# Altium schematic symbol library Logic_ANSI.SchLib: 30 symbols
Pins are listed as number, name and electrical type; pins without a type are passive.

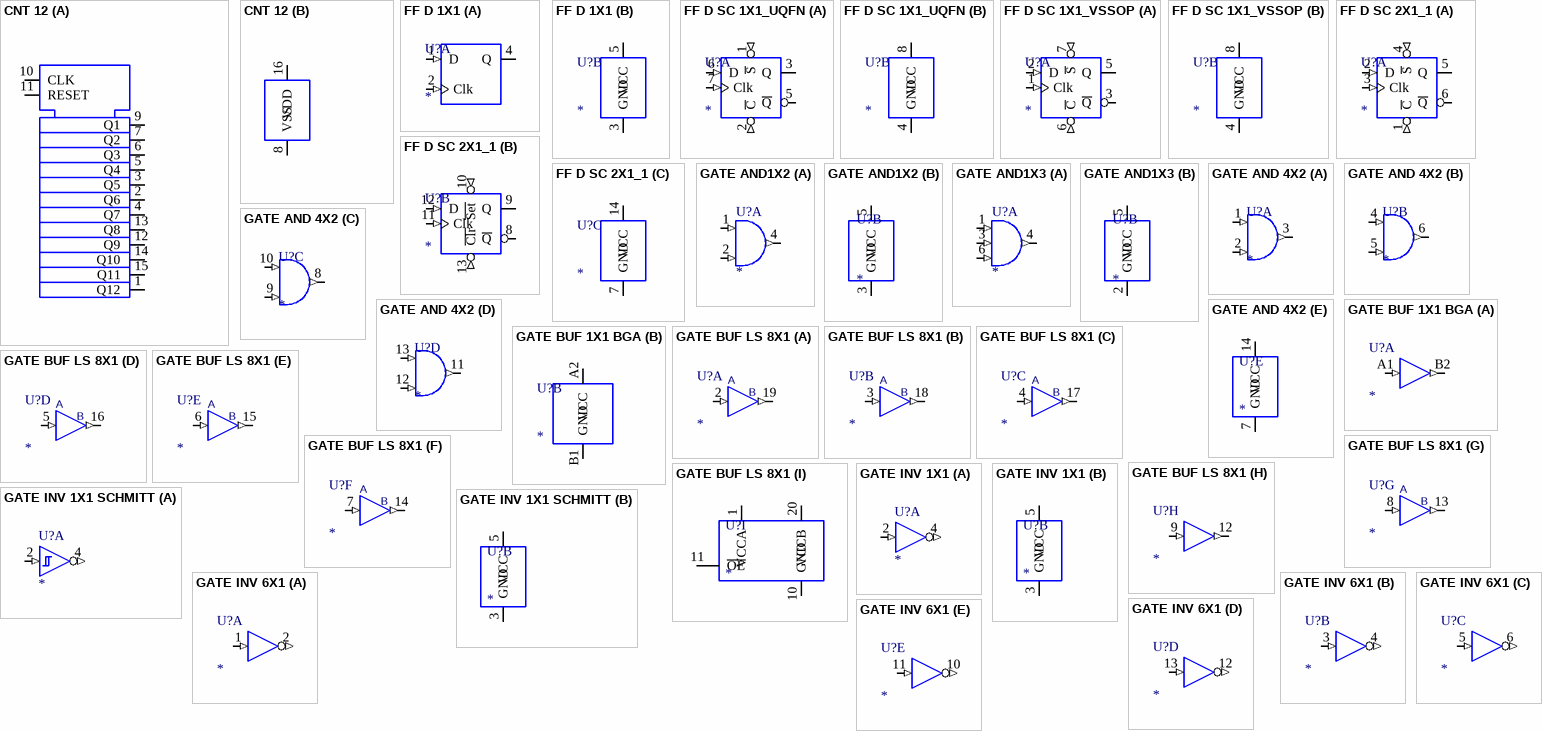
[diagram p0: symbols CNT 12 to GATE INV 6X1]

## CNT 12
designator U?
12 Bit Ripple Counter
part A pins: 1 Q12, 2 Q6, 3 Q5, 4 Q7, 5 Q4, 6 Q3, 7 Q2, 9 Q1, 10 CLK, 11 RESET, 12 Q9, 13 Q8, 14 Q10, 15 Q11
part B pins: 8 VSS, 16 VDD

## FF D 1X1
designator U?
part A pins: 1 D (in), 2 Clk (in), 4 Q
part B pins: 3 GND, 5 VCC

## FF D SC 1X1_UQFN
designator U?
part A pins: 1 ~{S} (in), 2 ~{C} (in), 3 Q, 5 ~{Q}, 6 D (in), 7 Clk (in)
part B pins: 4 GND, 8 VCC

## FF D SC 1X1_VSSOP
designator U?
part A pins: 1 Clk (in), 2 D (in), 3 ~{Q}, 5 Q, 6 ~{C} (in), 7 ~{S} (in)
part B pins: 4 GND, 8 VCC

## FF D SC 2X1_1
designator U?
part A pins: 1 ~{C} (in), 2 D (in), 3 Clk (in), 4 ~{S} (in), 5 Q, 6 ~{Q}
part B pins: 8 ~{Q}, 9 Q, 10 ~{Set} (in), 11 Clk (in), 12 D (in), 13 ~{Clr} (in)
part C pins: 7 GND, 14 VCC

## GATE AND1X2
designator U?
part A pins: 1 B (in), 2 A (in), 4 Y (out)
part B pins: 3 GND, 5 VCC

## GATE AND1X3
designator U?
part A pins: 1 A (in), 3 B (in), 4 Y (out), 6 C (in)
part B pins: 2 GND, 5 VCC

## GATE AND 4X2
designator U?
part A pins: 1 A0 (in), 2 B0 (in), 3 Y0 (out)
part B pins: 4 A1 (in), 5 B1 (in), 6 Y1 (out)
part C pins: 8 Y2 (out), 9 B2 (in), 10 A2 (in)
part D pins: 11 Y3 (out), 12 B3 (in), 13 A3 (in)
part E pins: 7 GND, 14 VCC

## GATE BUF 1X1 BGA
designator U?
part A pins: A1 A (in), B2 B8 (out)
part B pins: A2 VCC, B1 GND

## GATE BUF LS 8X1
designator U?
part A pins: 2 A1 (in), 19 B1 (out)
part B pins: 3 A2 (in), 18 B2 (out)
part C pins: 4 A3 (in), 17 B3 (out)
part D pins: 5 A4 (in), 16 B4 (out)
part E pins: 6 A5 (in), 15 B5 (out)
part F pins: 7 A6 (in), 14 B6 (out)
part G pins: 8 A7 (in), 13 B7 (out)
part H pins: 9 A8 (in), 12 B8 (out)
part I pins: 1 VCCA, 10 GND, 11 ~{OE}, 20 VCCB
part A text: A; B
part B text: A; B
part C text: A; B
part D text: A; B
part E text: A; B
part F text: A; B
part G text: A; B

## GATE INV 1X1
designator U?
part A pins: 2 A (in), 4 Y (out)
part B pins: 3 GND, 5 VCC

## GATE INV 1X1 SCHMITT
designator U?
part A pins: 2 A (in), 4 Y (out)
part B pins: 3 GND, 5 VCC

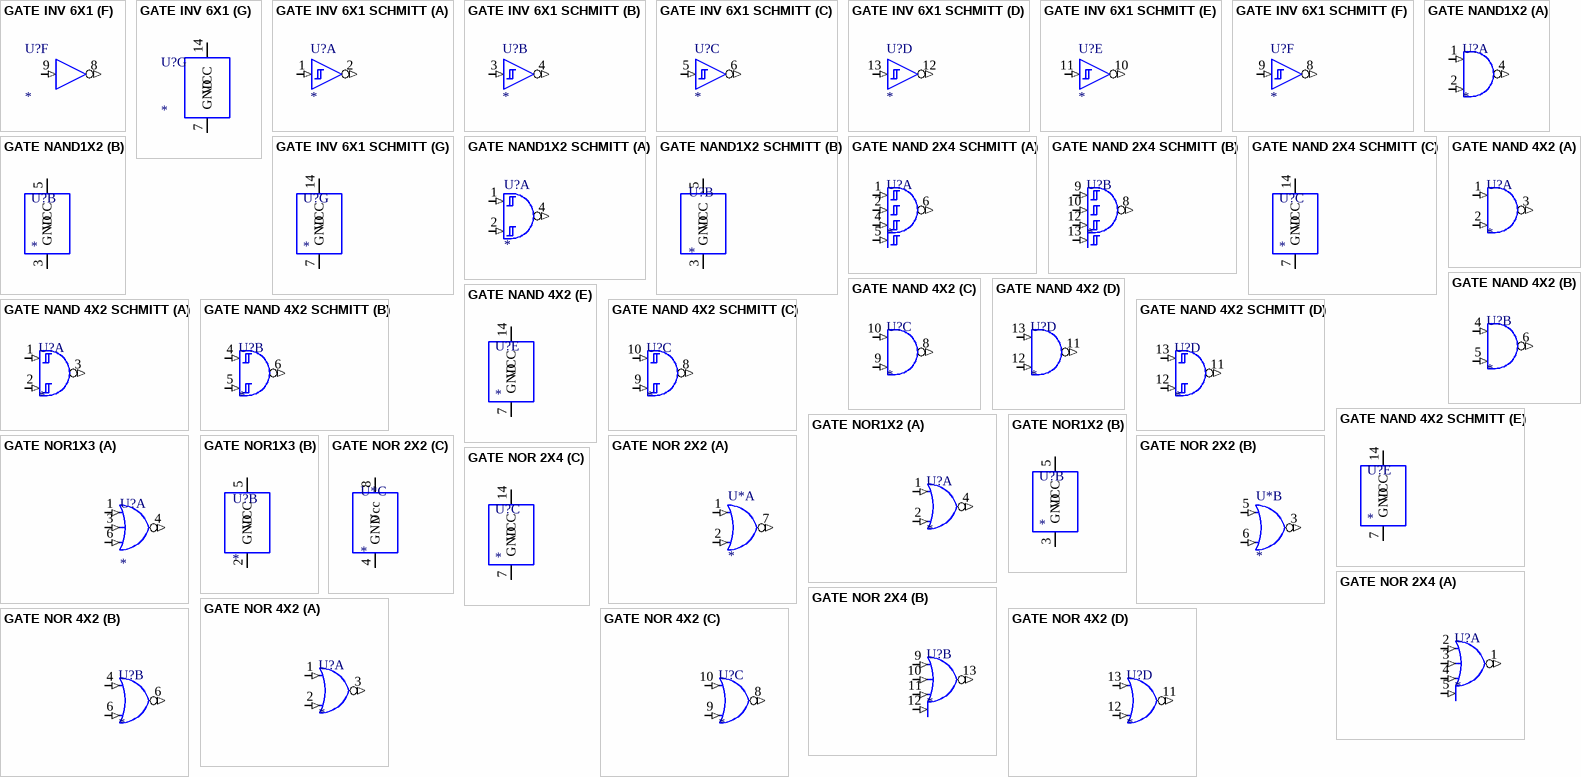
[diagram p1: symbols GATE INV 6X1 to GATE NOR 4X2]

## GATE INV 6X1
designator U?
part A pins: 1 A0 (in), 2 Y0 (out)
part B pins: 3 A1 (in), 4 Y1 (out)
part C pins: 5 A2 (in), 6 Y2 (out)
part D pins: 12 Y3 (out), 13 A3 (in)
part E pins: 10 Y4 (out), 11 A4 (in)
part F pins: 8 Y5 (out), 9 A5 (in)
part G pins: 7 GND, 14 VCC

## GATE INV 6X1 SCHMITT
designator U?
part A pins: 1 A0 (in), 2 Y0 (out)
part B pins: 3 A1 (in), 4 Y1 (out)
part C pins: 5 A2 (in), 6 Y2 (out)
part D pins: 12 Y3 (out), 13 A3 (in)
part E pins: 10 Y4 (out), 11 A4 (in)
part F pins: 8 Y5 (out), 9 A5 (in)
part G pins: 7 GND, 14 VCC

## GATE NAND1X2
designator U?
part A pins: 1 B (in), 2 A (in), 4 Y (out)
part B pins: 3 GND, 5 VCC

## GATE NAND1X2 SCHMITT
designator U?
part A pins: 1 B (in), 2 A (in), 4 Y (out)
part B pins: 3 GND, 5 VCC

## GATE NAND 2X4 SCHMITT
designator U?
part A pins: 1 A1 (in), 2 B1 (in), 4 C1 (in), 5 D1 (in), 6 Y1 (out)
part B pins: 8 Y2 (out), 9 A2 (in), 10 B2 (in), 12 C2 (in), 13 D2 (in)
part C pins: 7 GND, 14 VCC

## GATE NAND 4X2
designator U?
part A pins: 1 A0 (in), 2 B0 (in), 3 Y0 (out)
part B pins: 4 A1 (in), 5 B1 (in), 6 Y1 (out)
part C pins: 8 Y2 (out), 9 B2 (in), 10 A2 (in)
part D pins: 11 Y3 (out), 12 B3 (in), 13 A3 (in)
part E pins: 7 GND, 14 VCC

## GATE NAND 4X2 SCHMITT
designator U?
part A pins: 1 A0 (in), 2 B0 (in), 3 Y0 (out)
part B pins: 4 A1 (in), 5 B1 (in), 6 Y1 (out)
part C pins: 8 Y2 (out), 9 B2 (in), 10 A2 (in)
part D pins: 11 Y3 (out), 12 B3 (in), 13 A3 (in)
part E pins: 7 GND, 14 VCC

## GATE NOR1X2
designator U?
part A pins: 1 B (in), 2 A (in), 4 Y (out)
part B pins: 3 GND, 5 VCC

## GATE NOR1X3
designator U?
part A pins: 1 A (in), 3 B (in), 4 Y (out), 6 C (in)
part B pins: 2 GND, 5 VCC

## GATE NOR 2X2
designator U*
part A pins: 1 1A (in), 2 1B (in), 7 1Y (out)
part B pins: 3 2Y (out), 5 2A (in), 6 2B (in)
part C pins: 4 GND (power), 8 Vcc (power)

## GATE NOR 2X4
designator U?
part A pins: 1 Y0 (out), 2 A0 (in), 3 B0 (in), 4 C0 (in), 5 D0 (in)
part B pins: 9 A1 (in), 10 B1 (in), 11 C1 (in), 12 D1 (in), 13 Y1 (out)
part C pins: 7 GND, 14 VCC

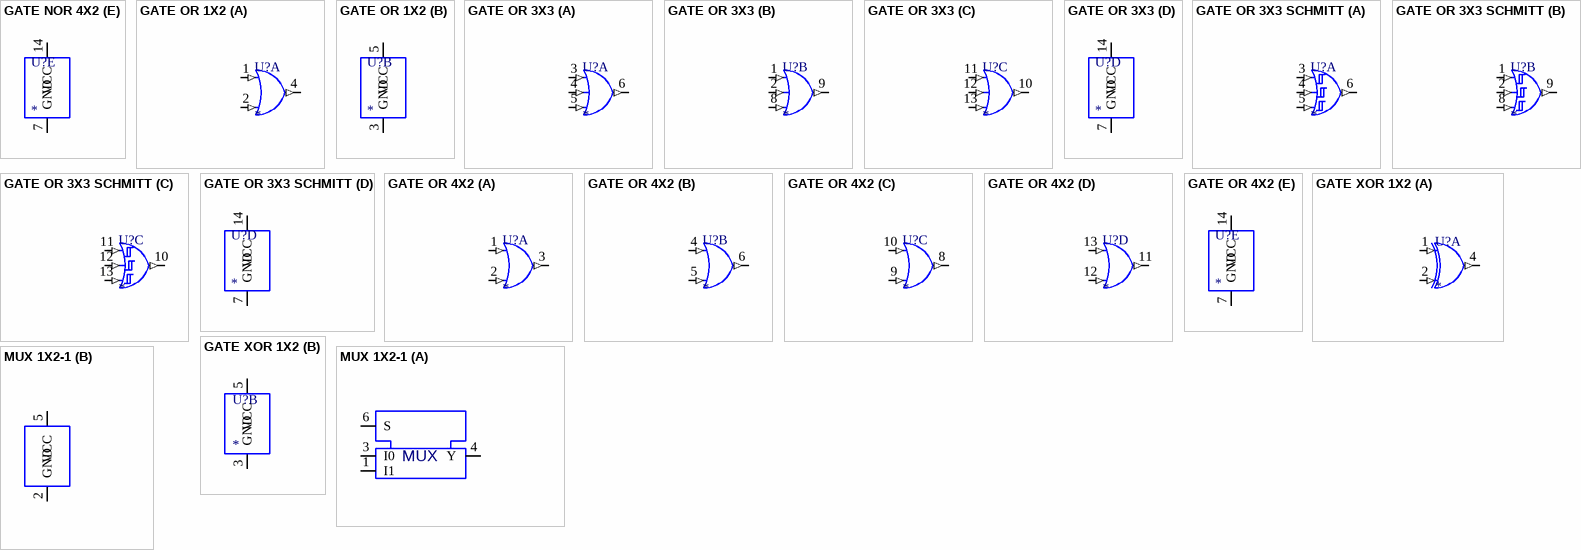
[diagram p2: symbols GATE NOR 4X2 to MUX 1X2-1]

## GATE NOR 4X2
designator U?
part A pins: 1 A0 (in), 2 B0 (in), 3 Y0 (out)
part B pins: 4 A1 (in), 5 B1 (in), 6 Y1 (out), 6 B2 (in)
part C pins: 8 Y2 (out), 9 B2 (in), 10 A2 (in)
part D pins: 11 Y3 (out), 12 B3 (in), 13 A3 (in)
part E pins: 7 GND, 14 VCC

## GATE OR 1X2
designator U?
part A pins: 1 B (in), 2 A (in), 4 Y (out)
part B pins: 3 GND, 5 VCC

## GATE OR 3X3
designator U?
part A pins: 3 A1 (in), 4 B1 (in), 5 C1 (in), 6 Y1 (out)
part B pins: 1 A2 (in), 2 B2 (in), 8 B3 (in), 9 Y2 (out)
part C pins: 10 Y3 (out), 11 A3 (in), 12 B3 (in), 13 C3 (in)
part D pins: 7 GND, 14 VCC

## GATE OR 3X3 SCHMITT
designator U?
part A pins: 3 A1 (in), 4 B1 (in), 5 C1 (in), 6 Y1 (out)
part B pins: 1 A2 (in), 2 B2 (in), 8 B3 (in), 9 Y2 (out)
part C pins: 10 Y3 (out), 11 A3 (in), 12 B3 (in), 13 C3 (in)
part D pins: 7 GND, 14 VCC

## GATE OR 4X2
designator U?
part A pins: 1 A0 (in), 2 B0 (in), 3 Y0 (out)
part B pins: 4 A1 (in), 5 B1 (in), 6 Y1 (out)
part C pins: 8 Y2 (out), 9 B2 (in), 10 A2 (in)
part D pins: 11 Y3 (out), 12 B3 (in), 13 A3 (in)
part E pins: 7 GND, 14 VCC

## GATE XOR 1X2
designator U?
part A pins: 1 A (in), 2 B (in), 4 Y (out)
part B pins: 3 GND, 5 VCC

## MUX 1X2-1
designator U?
Single 2 to 1 Multiplexer
part A pins: 1 I1, 3 I0, 4 Y, 6 S
part B pins: 2 GND, 5 VCC
part A text: MUX